# EAGLE library part N20-ENC2 (library untitled)
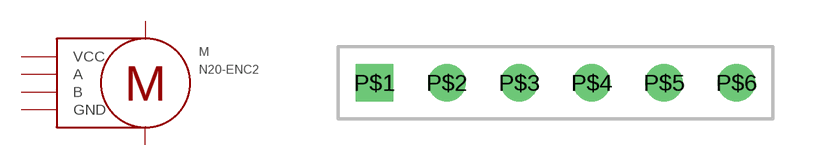
[diagram p2: symbol with the pads of 2.54MM_HEADER_6X1; footprint 2.54MM_HEADER_6X1]

Designator prefix M

## N20-ENC2  [2.54MM_HEADER_6X1]
P$1  M+  in
P$2  GND  pwr
P$3  A  out
P$4  B  out
P$5  VCC  pwr
P$6  M-  in

## Footprint 2.54MM_HEADER_6X1 (pad centres in mm)
drill 0.8 square: P$1 -6.35,0
drill 0.8: P$2 -3.81,0; P$3 -1.27,0; P$4 1.27,0; P$5 3.81,0; P$6 6.35,0